# EAGLE library part CA3080 (library ic)
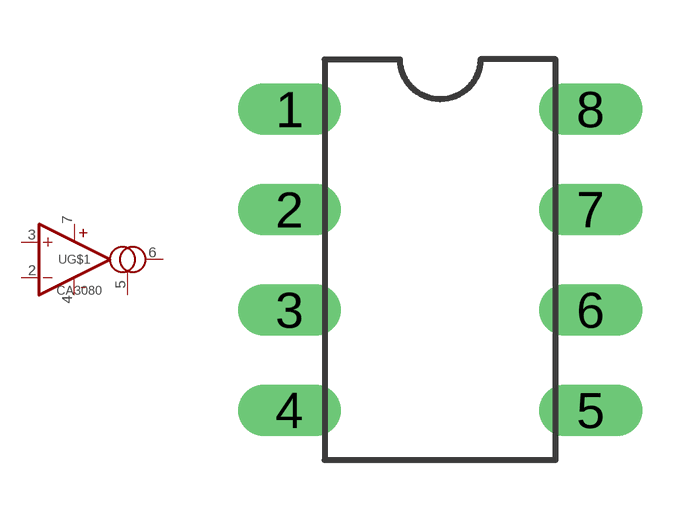
[diagram p39: symbol with the pads of DIL08; footprint DIL08]

Designator prefix -; gates G$1=OTA3080 G$2=PWR+-

## CA3080  [DIL08]
2  G$1:-IN  in
3  G$1:+IN  in
4  G$2:V-  pwr
5  G$1:AMP/BIAS  in
6  G$1:OUT1  out
7  G$2:V+  pwr

## Footprint DIL08 (pad centres in mm)
Dual In Line Package
drill 0.8 pad 1.27 long: 1 -3.81,3.81; 2 -3.81,1.27; 3 -3.81,-1.27; 4 -3.81,-3.81; 5 3.81,-3.81; 6 3.81,-1.27; 7 3.81,1.27; 8 3.81,3.81